# Altium footprint library Lite-On.PcbLib: 3 footprints
Each footprint in its own frame and in the unit in brackets; x right, y up, seen from the top. Pads: shape width x height; smd on the part's side, far side on the other; paste and mask are expansions set on the pad; w line width, h text height; cw(c..) or ccw(c..) is an arc to the next point about the centre after c.
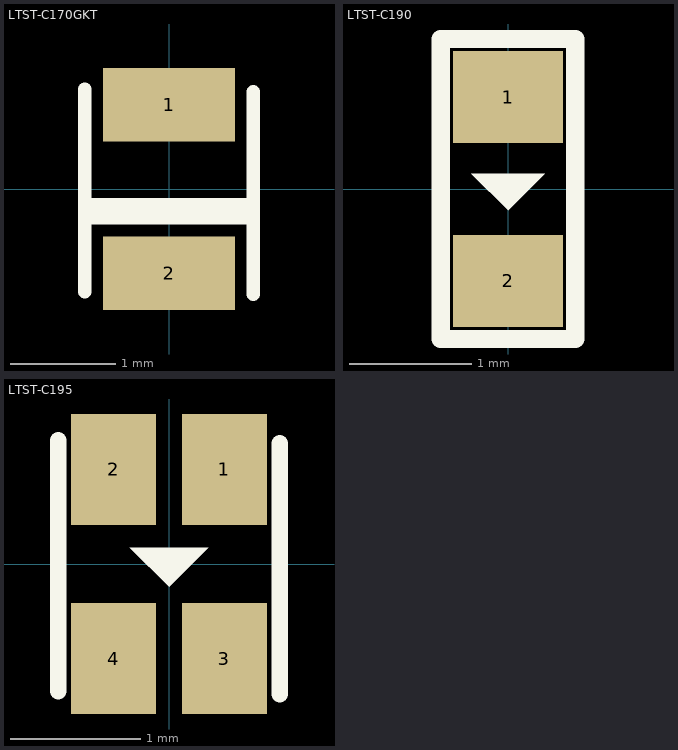
[diagram p0: the footprints below, top view; thin cyan lines are the x and y axes]

## LTST-C170GKT [mm] "Lite-On LTST-C170GKT (0805)"
height 1.1
pads (2):
  rect 1.25x0.7 smd: 1(0,0.8) 2(0,-0.8)
Top Overlay:
  lines w0.127: -0.8,-0.975 -0.8,0.95 ; -0.8,-0.275 0.8,-0.275 ; -0.8,-0.15 0.8,-0.15 ; 0.8,-1 0.8,0.925

## LTST-C190 [mm] "Lite-On LTST-C190 (0603)"
height 0.8
pads (2):
  rect 0.9x0.75 smd mask+0: 1(0,0.75) 2(0,-0.75)
Top Overlay:
  region: -0.3,0.125 0.3,0.125 0,-0.175
  lines w0.15: -0.55,-1.225 0.55,-1.225 0.55,1.225 -0.55,1.225 -0.55,-1.225

## LTST-C195 [mm] "Lite-On LTST-C195 (0605)"
height 1.1
pads (4):
  rect 0.65x0.85 smd paste-0.05 mask+0.025: 1(0.425,0.725) 2(-0.425,0.725) 3(0.425,-0.725) 4(-0.425,-0.725)
Top Overlay:
  region: -0.3,0.125 0.3,0.125 0,-0.175
  lines w0.127: -0.85,-0.975 -0.85,0.95 ; 0.85,-1 0.85,0.925
3D body: height 0.55, standoff 0, extent -0.75,-0.8 0.75,0.8